# EAGLE library part MC1489PG (library On Semiconductor)
Quad Line EIA-232D Receivers
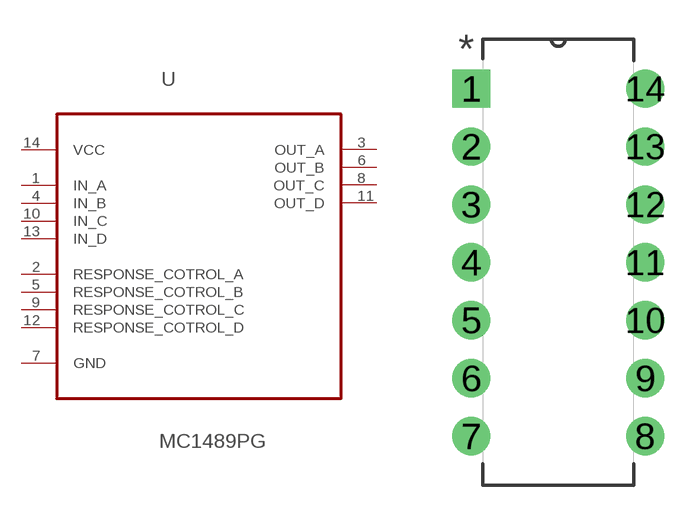
[diagram p314: symbol with the pads of DIP254P762X469-14; footprint DIP254P762X469-14]

Designator prefix U

## MC1489PG (MPN: MC1489PG; OC_FARNELL: 1211144; OC_NEWARK: 98H0661; PACKAGE: PDIP-14; SUPPLIER: On Semiconductor)  [DIP254P762X469-14]
1  IN_A  in
2  RESPONSE_COTROL_A  in
3  OUT_A  out
4  IN_B  in
5  RESPONSE_COTROL_B  in
6  OUT_B  out
7  GND  pas
8  OUT_C  out
9  RESPONSE_COTROL_C  in
10  IN_C  in
11  OUT_D  out
12  RESPONSE_COTROL_D  in
13  IN_D  in
14  VCC  pwr

## Footprint DIP254P762X469-14 (pad centres in mm)
drill 1.118 square: 1 -7.62,15.24
drill 1.118: 2 -7.62,12.7; 3 -7.62,10.16; 4 -7.62,7.62; 5 -7.62,5.08; 6 -7.62,2.54; 7 -7.62,0; 8 0,0; 9 0,2.54; 10 0,5.08; 11 0,7.62; 12 0,10.16; 13 0,12.7; 14 0,15.24